# Altium footprint library Miscellaneous Devices.PcbLib: 177 footprints (part 5 of 12)
Each footprint in its own frame and in the unit in brackets; x right, y up, seen from the top. Pads: shape width x height; smd on the part's side, far side on the other; paste and mask are expansions set on the pad; w line width, h text height; cw(c..) or ccw(c..) is an arc to the next point about the centre after c.
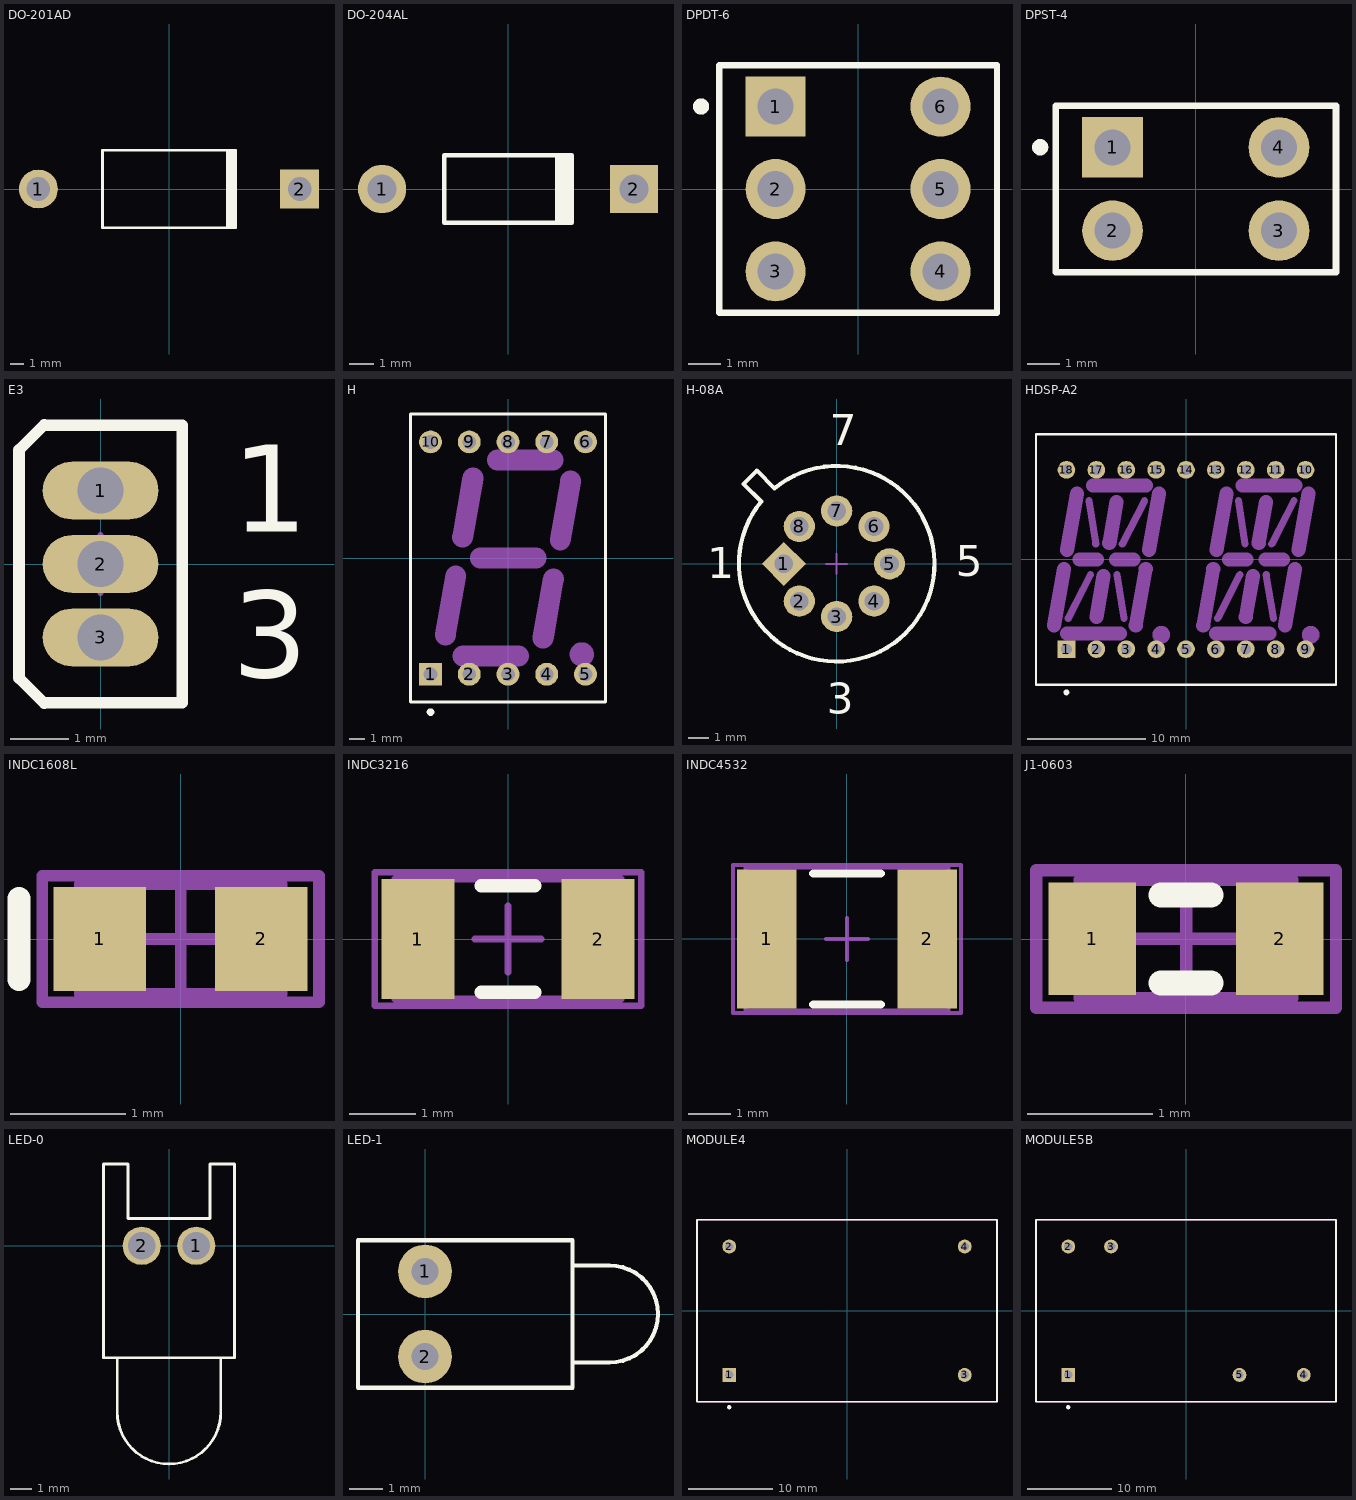
[diagram p4: the footprints below, top view; thin cyan lines are the x and y axes]

## DO-201AD [mm] "Diode, Axial; Body 9.5 x 5.6 mm (LxDia. max), Lead Dia. 1.32 mm (max)"
height 5.6
pads (2):
  round 2.8 hole 1.7: 1(-9.42,0)
  rect 2.8x2.8 hole 1.7: 2(9.42,0)
Top Overlay:
  rectangle: 4.1,-2.8 4.9,2.8
  lines w0.2: 4.8,-2.8 -4.8,-2.8 -4.8,2.8 4.8,2.8

## DO-204AL [mm] "Diode, Axial; Body 5.2 x 2.7 mm (LxDia. max), Lead Dia. 0.86 mm (max)"
height 2.7
pads (2):
  round 2 hole 1.2: 1(-5.23,0)
  rect 2x2 hole 1.2: 2(5.23,0)
Top Overlay:
  rectangle: 1.95,-1.4 2.75,1.4
  lines w0.2: 2.65,-1.4 -2.65,-1.4 -2.65,1.4 2.65,1.4

## DPDT-6 [mm] "Switch; 6 Leads"
pads (6):
  rect 1.85x1.85 hole 1.1: 1(-2.54,2.54)
  round 1.85 hole 1.1: 2(-2.54,0) 3(-2.54,-2.54) 4(2.54,-2.54) 5(2.54,0) 6(2.54,2.54)
Top Overlay:
  circle w0.25: c-4.836,2.541 r0.125
  lines w0.2: -4.28,-3.81 4.28,-3.81 4.28,3.81 -4.28,3.81 -4.28,-3.81

## DPST-4 [mm] "Switch; 4 Leads"
pads (4):
  rect 1.85x1.85 hole 1.1: 1(-2.54,1.27)
  round 1.85 hole 1.1: 2(-2.54,-1.27) 3(2.54,-1.27) 4(2.54,1.27)
Top Overlay:
  circle w0.25: c-4.751,1.274 r0.125
  lines w0.2: -4.28,-2.54 4.28,-2.54 4.28,2.54 -4.28,2.54 -4.28,-2.54

## E3 [mm] "TO, Flat Index; 3 In-Line, Axial Leads; Body Dia. 4.6mm; Lead Dia. 0.5 mm (max)"
height 4.01
pads (3):
  oval 2x1 hole 0.8: 1(0,1.27) 2(0,0) 3(0,-1.27)
Top Overlay:
  lines w0.2: -0.97,-2.41 -1.41,-1.97 -1.41,1.97 -0.97,2.41 ; -0.97,-2.4 1.41,-2.4 1.41,2.4 -0.97,2.4
  text "3" at 2.275,-1.963 h1.5
  text "1" at 2.275,0.555 h1.5
Mechanical 15:
  lines w0.1: -0.5,0 0.5,0 ; 0,-0.5 0,0.5

## H [mm] "LED, 7-Segment Display, 14.2 mm, RHD; 10 Leads; Row Space 15.24 mm; Pitch 2.54 mm"
height 8.25
pads (10):
  rect 1.5x1.5 hole 0.9: 1(-5.08,-7.62)
  round 1.5 hole 0.9: 2(-2.54,-7.62) 3(0,-7.62) 4(2.54,-7.62) 5(5.08,-7.62) 6(5.08,7.62) 7(2.54,7.62) 8(0,7.62) 9(-2.54,7.62) 10(-5.08,7.62)
Top Overlay:
  circle w0.25: c-5.08,-10.1 r0.125
  lines w0.2: -6.4,-9.45 6.4,-9.45 6.4,9.45 -6.4,9.45 -6.4,-9.45
Mechanical 1:
  circle w1: c4.842,-6.316 r0.296
  lines w1.37: -4.108,-5.054 -3.425,-1.17 ; -2.974,1.368 -2.293,5.255 ; -2.958,-6.429 0.692,-6.426 ; -1.821,0 1.828,0 ; -0.689,6.425 2.96,6.425 ; 2.295,-5.256 2.98,-1.371 ; 3.427,1.169 4.11,5.058
Mechanical 13:
  lines w0.1: -6.4,-9.45 -6.4,9.45 6.4,9.45 6.4,-9.45 -6.4,-9.45
3D body: height 8.25, standoff 0, extent -6.4,-9.45 6.4,9.45

## H-08A [mm] "Can; 8 Leads; Pin Circle Dia. 5.08 mm; Lead Dia. 0.53 mm (max)"
height 4.7
pads (8):
  rect 1.5x1.5 hole 0.9 rot 45: 1(-2.54,0)
  round 1.5 hole 0.9: 2(-1.796,-1.796) 3(0,-2.54) 4(1.796,-1.796) 5(2.54,0) 6(1.796,1.796) 7(0,2.54) 8(-1.796,1.796)
Top Overlay:
  lines w0.2: -4.475,3.838 -3.626,2.99 ccw(c0,0) -2.99,3.626 -3.838,4.475 -4.475,3.838
  text "7" at -0.332,5.7 h1.5
  text "5" at 5.712,-0.589 h1.5
  text "3" at -0.469,-7.22 h1.5
  text "1" at -6.22,-0.696 h1.5
Mechanical 15:
  lines w0.1: -0.5,0 0.5,0 ; 0,-0.5 0,0.5

## HDSP-A2 [mm] "LED, Alphanumeric Display, 13.8 mm, Dual Character; 18 Leads; Row Space 15.24 mm; Pitch 2.54 mm"
height 7.27
pads (18):
  rect 1.5x1.5 hole 0.9: 1(-10.16,-7.62)
  round 1.5 hole 0.9: 2(-7.62,-7.62) 3(-5.08,-7.62) 4(-2.54,-7.62) 5(0,-7.62) 6(2.54,-7.62) 7(5.08,-7.62) 8(7.62,-7.62) 9(10.16,-7.62) 10(10.16,7.62) 11(7.62,7.62) 12(5.08,7.62) 13(2.54,7.62) 14(0,7.62) 15(-2.54,7.62) 16(-5.08,7.62) 17(-7.62,7.62) 18(-10.16,7.62)
Top Overlay:
  circle w0.25: c-10.16,-11.3 r0.125
  lines w0.2: -12.75,-10.65 12.75,-10.65 12.75,10.65 -12.75,10.65 -12.75,-10.65
Mechanical 1:
  circle w1.2: c-2.1,-6.4 r0.15
  circle w1.2: c10.6,-6.4 r0.15
  lines w0.6: -10.01,-5 -8.12,-1.3 ; -8.25,5 -7.67,1.3 ; -5.88,-1.3 -5.28,-5 ; -5.42,1.3 -3.52,5 ; 2.69,-5 4.58,-1.3 ; 4.45,5 5.03,1.3 ; 6.82,-1.3 7.42,-5 ; 7.28,1.3 9.18,5
  lines w1.2: -11.23,-5.6 -10.38,-0.8 ; -10.13,-6.3 -5.62,-6.3 ; -10.1,0.8 -9.26,5.58 ; -9.035,0 -7.58,0 ; -7.9,6.3 -3.39,6.3 ; -7.62,-4.89 -7.01,-1.4 ; -6.52,1.41 -5.91,4.89 ; -5.96,0 -4.465,0 ; -4.27,-5.6 -3.42,-0.8 ; -3.13,0.81 -2.3,5.59 ; 1.47,-5.6 2.32,-0.8 ; 2.57,-6.3 7.08,-6.3 ; 2.6,0.8 3.44,5.58 ; 3.665,0 5.14,0 ; 4.8,6.3 9.31,6.3 ; 5.08,-4.89 5.69,-1.4 ; 6.18,1.41 6.79,4.89 ; 6.76,0 8.235,0 ; 8.43,-5.6 9.28,-0.8 ; 9.57,0.81 10.4,5.59
Mechanical 13:
  lines w0.1: -12.75,-10.65 -12.75,10.65 12.75,10.65 12.75,-10.65 -12.75,-10.65
3D body: height 7.27, standoff 0, extent -12.75,-10.65 12.75,10.65

## INDC1608L [mm] "Chip Inductor, Body 1.6x0.8mm, IPC High Density"
height 0.55
pads (2):
  rect 0.8x0.9 smd: 1(-0.7,0) 2(0.7,0)
Top Overlay:
  lines w0.2: -1.4,-0.35 -1.4,0.35
Mechanical 13:
  lines w0.1: -0.875,-0.475 -0.875,0.475 0.875,0.475 0.875,-0.475 -0.875,-0.475
Mechanical 15:
  lines w0.1: -0.475,0 0.475,0 ; 0,-0.475 0,0.475 ; -1.2,-0.55 -1.2,0.55 1.2,0.55 1.2,-0.55 -1.2,-0.55
3D body: height 0.55, standoff 0, extent -0.875,-0.475 0.875,0.475

## INDC3216 [mm] "Chip Inductor, Body 3.2x1.6mm, IPC High Density"
height 0.55
pads (2):
  rect 1.1x1.8 smd: 1(-1.35,0) 2(1.35,0)
Top Overlay:
  lines w0.2: -0.4,-0.8 0.4,-0.8 ; -0.4,0.8 0.4,0.8
Mechanical 13:
  lines w0.1: -1.7,-0.9 1.7,-0.9 1.7,0.9 -1.7,0.9 -1.7,-0.9
Mechanical 15:
  lines w0.1: -0.5,0 0.5,0 ; 0,-0.5 0,0.5 ; -2,-1 2,-1 2,1 -2,1 -2,-1
3D body: height 0.55, standoff 0, extent -1.7,-0.9 1.7,0.9

## INDC4532 [mm] "Chip Inductor, Body 4.5x3.2mm, IPC High Density"
height 0.55
pads (2):
  rect 1.4x3.3 smd: 1(-1.9,0) 2(1.9,0)
Top Overlay:
  lines w0.2: -0.8,-1.55 0.8,-1.55 ; -0.8,1.55 0.8,1.55
Mechanical 13:
  lines w0.1: -2.4,-1.7 2.4,-1.7 2.4,1.7 -2.4,1.7 -2.4,-1.7
Mechanical 15:
  lines w0.1: -0.5,0 0.5,0 ; 0,-0.5 0,0.5 ; -2.7,-1.75 2.7,-1.75 2.7,1.75 -2.7,1.75 -2.7,-1.75
3D body: height 0.55, standoff 0, extent -2.4,-1.7 2.4,1.7

## J1-0603 [mm] "Chip Resistor, Body 1.6x0.8mm, IPC High Density"
height 0.9
pads (2):
  rect 0.7x0.9 smd: 1(-0.75,0) 2(0.75,0)
Top Overlay:
  lines w0.2: -0.2,-0.35 0.2,-0.35 ; -0.2,0.35 0.2,0.35
Mechanical 13:
  lines w0.1: -0.85,-0.475 -0.85,0.475 0.85,0.475 0.85,-0.475 -0.85,-0.475
Mechanical 15:
  lines w0.1: -0.475,0 0.475,0 ; 0,-0.475 0,0.475 ; -1.2,-0.55 -1.2,0.55 1.2,0.55 1.2,-0.55 -1.2,-0.55
3D body: height 0.9, standoff 0, extent -0.85,-0.475 0.85,0.475

## LED-0 [mil] "LED; 2 Leads"
pads (2):
  round 70 hole 50: 1(50,0) 2(-50,0)
Top Overlay:
  lines w5: -95,-205 -95,-305 ccw(c0,-305) 95,-305 95,-205 ; -120,-205 120,-205 120,150 75,150 75,50 -75,50 -75,150 -120,150 -120,-205

## LED-1 [mm] "LED; 2 Leads"
pads (2):
  round 1.6 hole 0.8: 1(0,1.27) 2(0,-1.27)
Top Overlay:
  lines w0.127: 4.4,-1.45 5.5,-1.45 ccw(c5.5,0) 5.5,1.45 4.4,1.45 ; -2,-2.2 4.4,-2.2 4.4,2.2 -2,2.2 -2,-2.2

## MODULE4 [mm] "DIP; 4 Round Pins; Row Space 27.94 mm; Pitch 15.24 mm"
height 14
pads (4):
  rect 1.65x1.65 hole 1: 1(-13.97,-7.62)
  round 1.65 hole 1: 2(-13.97,7.62) 3(13.97,-7.62) 4(13.97,7.62)
Top Overlay:
  circle w0.25: c-13.97,-11.45 r0.125
  lines w0.2: -17.8,-10.8 17.8,-10.8 17.8,10.8 -17.8,10.8 -17.8,-10.8
Mechanical 13:
  lines w0.1: -17.8,-10.8 17.8,-10.8 17.8,10.8 -17.8,10.8 -17.8,-10.8
3D body: height 14, standoff 0, extent -17.8,-10.8 17.8,10.8

## MODULE5B [mm] "DIP; 5 Round Pins; Row Space 15.24 mm; Pitch 2.54 mm"
height 14
pads (5):
  rect 1.65x1.65 hole 1: 1(-13.97,-7.62)
  round 1.65 hole 1: 2(-13.97,7.62) 3(-8.89,7.62) 4(13.97,-7.62) 5(6.35,-7.62)
Top Overlay:
  circle w0.25: c-13.97,-11.45 r0.125
  lines w0.2: -17.8,-10.8 17.8,-10.8 17.8,10.8 -17.8,10.8 -17.8,-10.8
Mechanical 13:
  lines w0.1: -17.8,-10.8 -17.8,10.8 17.8,10.8 17.8,-10.8 -17.8,-10.8
3D body: height 14, standoff 0, extent -17.8,-10.8 17.8,10.8